# EAGLE library part AD8330 (library QuantumOptics)
AD8330 Analog Devices, Variable Gain Amplifier
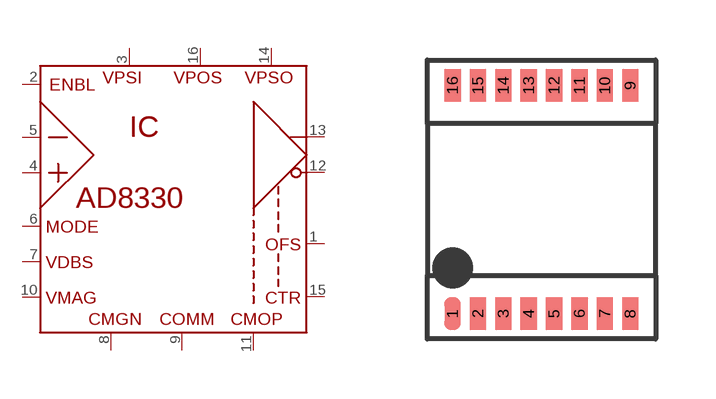
[diagram p2: symbol with the pads of QSOP-16(RQ-16); footprint QSOP-16(RQ-16)]

Designator prefix IC

## AD8330ARQ  [QSOP-16(RQ-16)]
1  OFST  in
2  ENBL  in
3  VPSI  sup
4  IN+  in
5  IN-  in
6  MODE  nc
7  VDBS  in
8  CMGN  sup
9  COMM  sup
10  VMAG  in
11  CMOP  sup
12  OPLO  out
13  OPHI  out
14  VPSO  sup
15  CNTR
16  VPOS  sup

## Footprint QSOP-16(RQ-16) (pad centres in mm)
QSOP-16 (RQ-16) Analog Devices wide SOP-16 on 0.025" grid
smd 0.406 x 0.813: 1 -1.27,-3.175; 2 -0.635,-3.175; 3 0,-3.175; 4 0.635,-3.175; 5 1.27,-3.175; 6 1.905,-3.175; 7 2.54,-3.175; 8 3.175,-3.175; 9 3.175,2.54; 10 2.54,2.54; 11 1.905,2.54; 12 1.27,2.54; 13 0.635,2.54; 14 0,2.54; 15 -0.635,2.54; 16 -1.27,2.54